# EAGLE library part PINHEAD_2X10 (library pinhead)
20 Position Receptacle Connector 0.079" (2.00mm) Surface Mount Gold
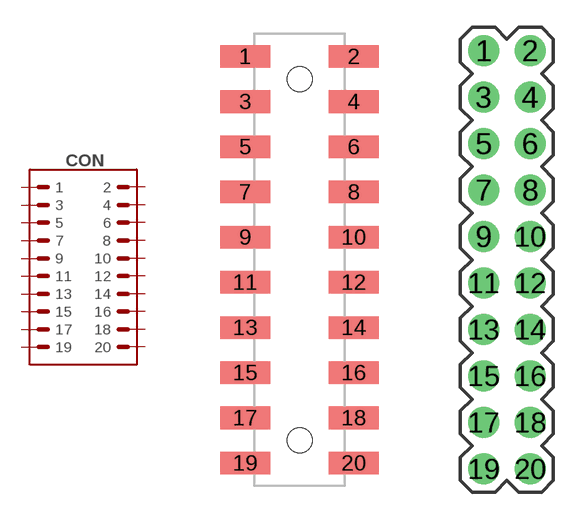
[diagram p17: symbol with the pads of A3A-20DA-2SV; footprints A3A-20DA-2SV, 2X10-PTH-2.54]

Designator prefix CON

## PINHEAD_2X10-HIROSE (DIGIKEY#: H10978-ND; MANF: Hirose Electric Co Ltd; MANF#: A3A-20DA-2SV(71))  [A3A-20DA-2SV]
1  1  pas
2  2  pas
3  3  pas
4  4  pas
5  5  pas
6  6  pas
7  7  pas
8  8  pas
9  9  pas
10  10  pas
11  11  pas
12  12  pas
13  13  pas
14  14  pas
15  15  pas
16  16  pas
17  17  pas
18  18  pas
19  19  pas
20  20  pas

## PINHEAD_2X10-2.54-TH  [2X10-PTH-2.54]
Pads as for A3A-20DA-2SV

## PINHEAD_2X10-2.54-TH-FEMALE  [2X10-PTH-2.54-FEMALE]
Pads as for A3A-20DA-2SV

## PINHEAD_2X10-2.54-TH-FEMALE-LONG (DIGIKEY#: SAM10741-ND; MANF: Samtec Inc; MANF#: SSQ-110-23-G-D)  [2X10-PTH-2.54-FEMALE-LONG-PINS]
Pads as for A3A-20DA-2SV

## PINHEAD_2X10-2.54-SMD-FEMALE  [2X10-SMD-FEMALE]
Pads as for A3A-20DA-2SV

## PINHEAD_2X10-2.54-TH-MALE-RA  [2X10-PTH-RA-2.54-MALE]
Pads as for A3A-20DA-2SV

## PINHEAD_2X10-ZX-PM1.0  [ZX-PM1.0-2-10PU-W]
Pads as for A3A-20DA-2SV

## PINHEAD_2X10-ZX-PZ1.0-2-10*PWZ  [ZX-PZ1.0-2-10*PWZ]
Pads as for A3A-20DA-2SV

## Footprint A3A-20DA-2SV (pad centres in mm)
smd 2.2 x 1: 1 -2.4,9; 2 2.4,9; 3 -2.4,7; 4 2.4,7; 5 -2.4,5; 6 2.4,5; 7 -2.4,3; 8 2.4,3; 9 -2.4,1; 10 2.4,1; 11 -2.4,-1; 12 2.4,-1; 13 -2.4,-3; 14 2.4,-3; 15 -2.4,-5; 16 2.4,-5; 17 -2.4,-7; 18 2.4,-7; 19 -2.4,-9; 20 2.4,-9
hole 1.1 at 0,-8
hole 1.1 at 0,8

## Footprint 2X10-PTH-2.54 (pad centres in mm)
drill 1 pad 1.7: 1 -1.27,11.43; 2 1.27,11.43; 3 -1.27,8.89; 4 1.27,8.89; 5 -1.27,6.35; 6 1.27,6.35; 7 -1.27,3.81; 8 1.27,3.81; 9 -1.27,1.27; 10 1.27,1.27; 11 -1.27,-1.27; 12 1.27,-1.27; 13 -1.27,-3.81; 14 1.27,-3.81; 15 -1.27,-6.35; 16 1.27,-6.35; 17 -1.27,-8.89; 18 1.27,-8.89; 19 -1.27,-11.43; 20 1.27,-11.43

## Footprint 2X10-PTH-2.54-FEMALE (pad centres in mm)
drill 1.016 octagon: 1 -1.27,11.43; 2 1.27,11.43; 3 -1.27,8.89; 4 1.27,8.89; 5 -1.27,6.35; 6 1.27,6.35; 7 -1.27,3.81; 8 1.27,3.81; 9 -1.27,1.27; 10 1.27,1.27; 11 -1.27,-1.27; 12 1.27,-1.27; 13 -1.27,-3.81; 14 1.27,-3.81; 15 -1.27,-6.35; 16 1.27,-6.35; 17 -1.27,-8.89; 18 1.27,-8.89; 19 -1.27,-11.43; 20 1.27,-11.43

## Footprint 2X10-PTH-2.54-FEMALE-LONG-PINS (pad centres in mm)
drill 1.016 octagon: 1 -1.27,11.43; 2 1.27,11.43; 3 -1.27,8.89; 4 1.27,8.89; 5 -1.27,6.35; 6 1.27,6.35; 7 -1.27,3.81; 8 1.27,3.81; 9 -1.27,1.27; 10 1.27,1.27; 11 -1.27,-1.27; 12 1.27,-1.27; 13 -1.27,-3.81; 14 1.27,-3.81; 15 -1.27,-6.35; 16 1.27,-6.35; 17 -1.27,-8.89; 18 1.27,-8.89; 19 -1.27,-11.43; 20 1.27,-11.43

## Footprint 2X10-SMD-FEMALE (pad centres in mm)
DS1023-11-2X10B8XBS Drawing <https://www.promelec.ru/fs/sources/bd/75/44/99/341a96168748aa77ff98430c.pdf>
smd 1 x 1.8: 1 -11.43,2.8; 2 -11.43,-2.8; 3 -8.89,2.8; 4 -8.89,-2.8; 5 -6.35,2.8; 6 -6.35,-2.8; 7 -3.81,2.8; 8 -3.81,-2.8; 9 -1.27,2.8; 10 -1.27,-2.8; 11 1.27,2.8; 12 1.27,-2.8; 13 3.81,2.8; 14 3.81,-2.8; 15 6.35,2.8; 16 6.35,-2.8; 17 8.89,2.8; 18 8.89,-2.8; 19 11.43,2.8; 20 11.43,-2.8
hole 1.2 at -10.16,0
hole 1.2 at 10.16,0

## Footprint 2X10-PTH-RA-2.54-MALE (pad centres in mm)
PIN HEADER
drill 1.016 octagon: 1 -1.35,11.43; 2 1.19,11.43; 3 -1.35,8.89; 4 1.19,8.89; 5 -1.35,6.35; 6 1.19,6.35; 7 -1.35,3.81; 8 1.19,3.81; 9 -1.35,1.27; 10 1.19,1.27; 11 -1.35,-1.27; 12 1.19,-1.27; 13 -1.35,-3.81; 14 1.19,-3.81; 15 -1.35,-6.35; 16 1.19,-6.35; 17 -1.35,-8.89; 18 1.19,-8.89; 19 -1.35,-11.43; 20 1.19,-11.43

## Footprint ZX-PM1.0-2-10PU-W (pad centres in mm)
smd 1.8 x 0.6: 1 -1.5,4.5; 2 1.5,4.5; 3 -1.5,3.5; 4 1.5,3.5; 5 -1.5,2.5; 6 1.5,2.5; 7 -1.5,1.5; 8 1.5,1.5; 9 -1.5,0.5; 10 1.5,0.5; 11 -1.5,-0.5; 12 1.5,-0.5; 13 -1.5,-1.5; 14 1.5,-1.5; 15 -1.5,-2.5; 16 1.5,-2.5; 17 -1.5,-3.5; 18 1.5,-3.5; 19 -1.5,-4.5; 20 1.5,-4.5

## Footprint ZX-PZ1.0-2-10*PWZ (pad centres in mm)
Drawing <https://www.lcsc.com/datasheet/lcsc_datasheet_2411220026_Megastar-ZX-PZ1-0-2-10PWZ_C41370704.pdf>
smd 2.4 x 0.56: 1 -1.8,4.5; 2 1.8,4.5; 3 -1.8,3.5; 4 1.8,3.5; 5 -1.8,2.5; 6 1.8,2.5; 7 -1.8,1.5; 8 1.8,1.5; 9 -1.8,0.5; 10 1.8,0.5; 11 -1.8,-0.5; 12 1.8,-0.5; 13 -1.8,-1.5; 14 1.8,-1.5; 15 -1.8,-2.5; 16 1.8,-2.5; 17 -1.8,-3.5; 18 1.8,-3.5; 19 -1.8,-4.5; 20 1.8,-4.5